# Altium integrated library Voltage_Regulators_Linear.IntLib: 1 symbol
Pins are listed as number, name and electrical type; pins without a type are passive.

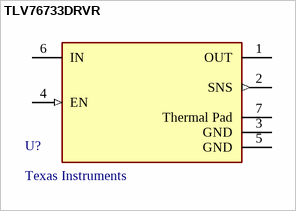
[diagram p0: symbol TLV76733DRVR]

## TLV76733DRVR
designator U?, comment Texas Instruments
Precision Linear Voltage Regulator Positive 3.3V 1A 6-Pin WSON T/R; Manufacturer Part Number 1: TLV76733DRVR; Category 1: Voltage Regulators - Linear; Supplier 1: Digi-Key; Supplier Part Number 1: 296-TLV76733DRVRCT-ND; Manufacturer 1: Texas Instruments; RoHS 1: Yes; Description 1: Precision Linear Voltage Regulator Positive 3.3V 1A 6-Pin WSON T/R; Stock 1: 18565; Pricing 1: 1=0.92000, 10=0.82200, 25=0.78040, 100=0.64120, 250=0.59936, 500=0.52968, 1000=0.41817 (USD); ComponentLink1URL: http://www.ti.com/general/docs/suppproductinfo.tsp?distId=10&amp;gotoUrl=http%3A%2F%2Fwww.ti.com%2Flit%2Fgpn%2Ftlv767&src-supplier=Digi-Key; ComponentLink1Description: http://www.ti.com/general/docs/suppproductinfo.tsp?distId=10&amp;gotoUrl=http%3A%2F%2Fwww.ti.com%2Flit%2Fgpn%2Ftlv767&src-supplier=Digi-Key
footprint FP-DRV0006A-IPC_A
footprint FP-DRV0006A-IPC_B
footprint FP-DRV0006A-IPC_C
pins: 1 OUT, 2 SNS (out), 3 GND (power), 4 EN (in), 5 GND (power), 6 IN (power), 7 Thermal Pad